# EAGLE library part ICA-501 (library ICA-501)
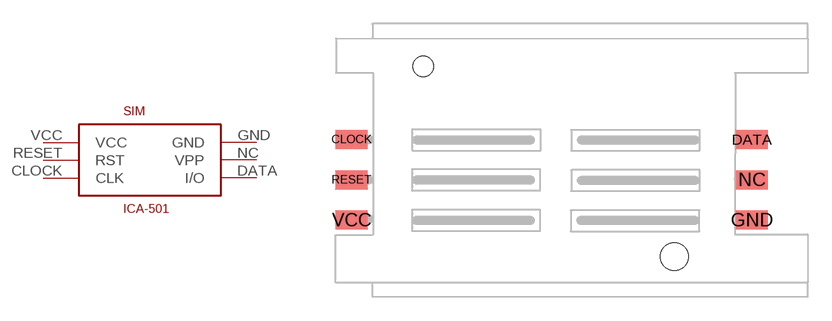
[diagram p0: symbol with the pads of ICA-501-006-F7; footprint ICA-501-006-F7]

Designator prefix SIM

## ICA-501  [ICA-501-006-F7]
CLOCK  CLK
DATA  I/O
GND  GND
NC  VPP
RESET  RST
VCC  VCC

## Footprint ICA-501-006-F7 (pad centres in mm)
smd 2 x 1.2: CLOCK 0,0; DATA 25.2,0; GND 25.2,-5.08; NC 25.2,-2.54; RESET 0,-2.54; VCC 0,-5.08
hole 1.3 at 4.51,4.61
hole 1.75 at 20.31,-7.38